# EAGLE library part ORG1408 (library lib_stankus)
OriginGPS ORG1408 GPS module
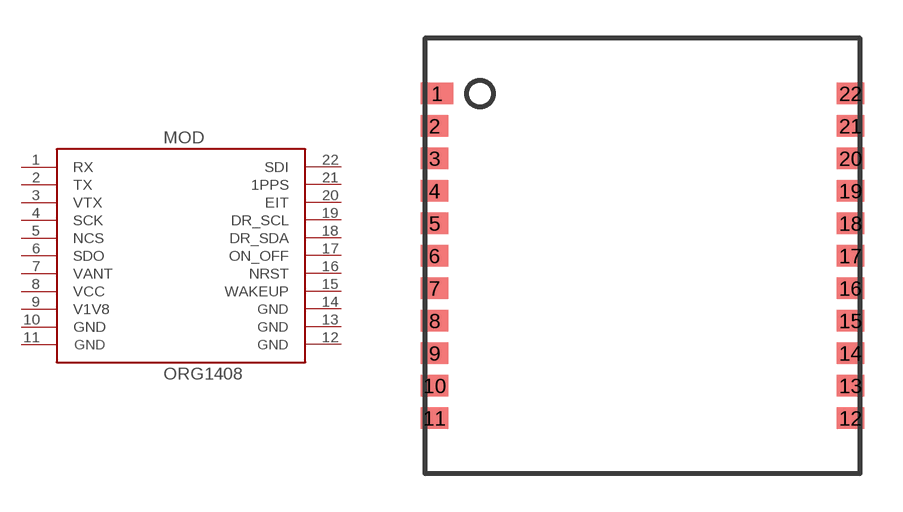
[diagram p37: symbol with the pads of ORG1X08; footprint ORG1X08]

Designator prefix MOD

## ORG1408  [ORG1X08]
1  RX  pas
2  TX  pas
3  VTX  pas
4  SCK  pas
5  NCS  pas
6  SDO  pas
7  VANT  pas
8  VCC  pas
9  V1V8  pas
10  GND  pas
11  GND  pas
12  GND  pas
13  GND  pas
14  GND  pas
15  WAKEUP  pas
16  NRST  pas
17  ON_OFF  pas
18  DR_SDA  pas
19  DR_SCL  pas
20  EIT  pas
21  1PPS  pas
22  SDI  pas

## Footprint ORG1X08 (pad centres in mm)
ORG1X08
smd 1.27 x 0.838: 1 -8.026,6.35
smd 1.067 x 0.838: 2 -8.128,5.08; 3 -8.128,3.81; 4 -8.128,2.54; 5 -8.128,1.27; 6 -8.128,0; 7 -8.128,-1.27; 8 -8.128,-2.54; 9 -8.128,-3.81; 10 -8.128,-5.08; 11 -8.128,-6.35; 12 8.128,-6.35; 13 8.128,-5.08; 14 8.128,-3.81; 15 8.128,-2.54; 16 8.128,-1.27; 17 8.128,0; 18 8.128,1.27; 19 8.128,2.54; 20 8.128,3.81; 21 8.128,5.08; 22 8.128,6.35